# Altium integrated library National Semiconductor Amplifier.IntLib: 1665 symbols (part 17 of 44)
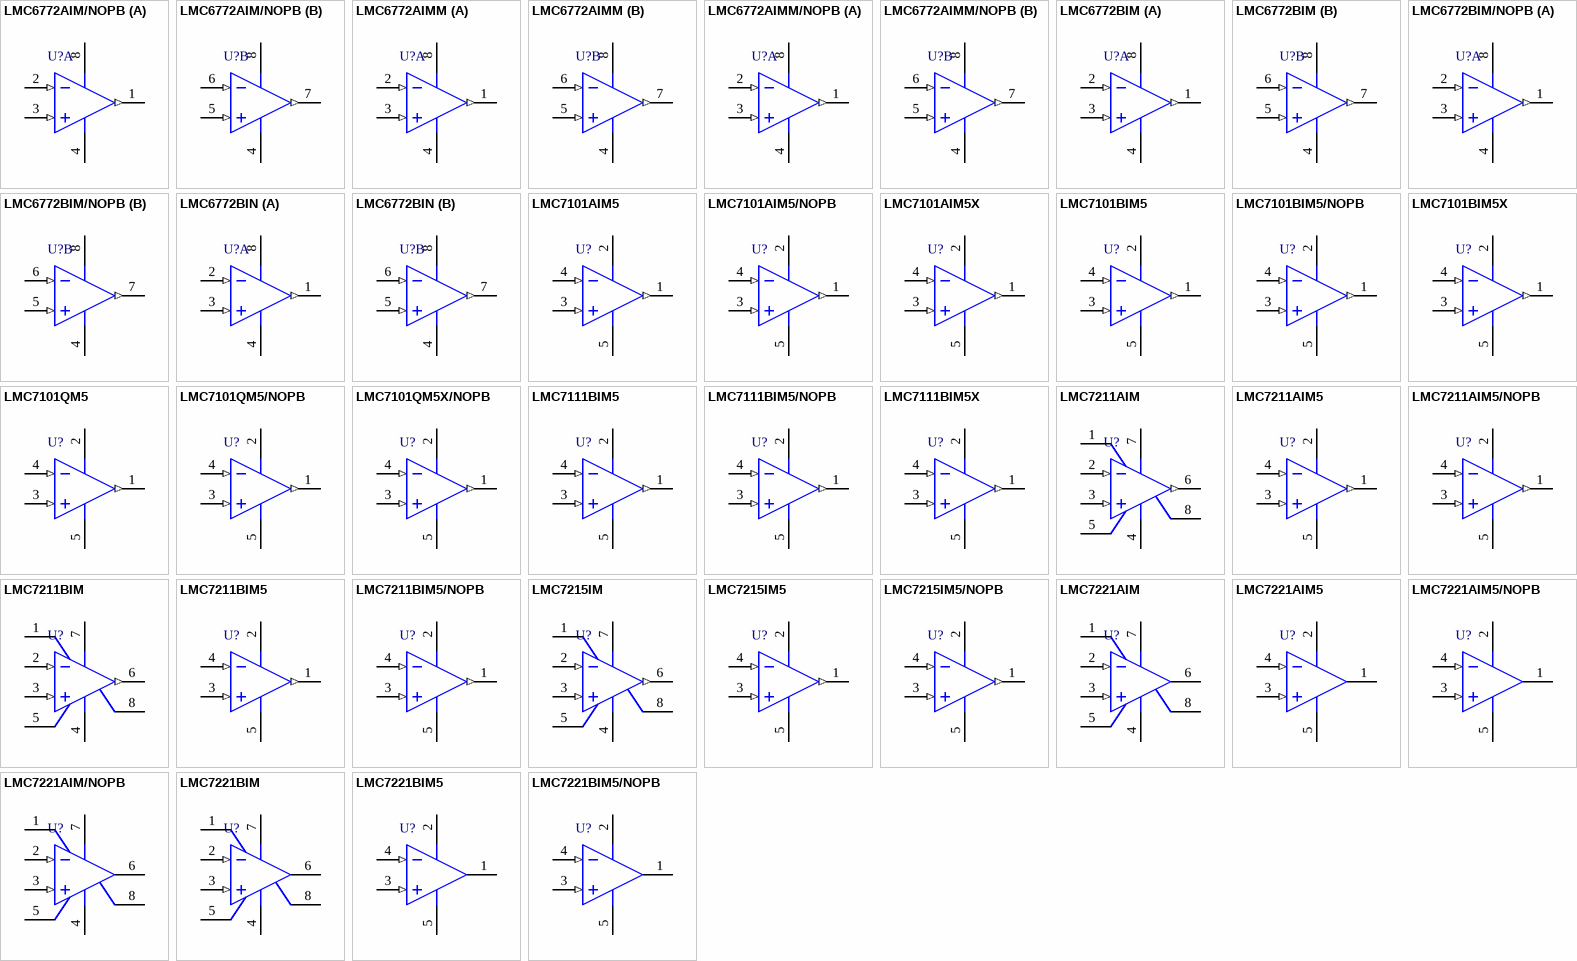
[diagram p100: symbols LMC6772AIM/NOPB to LMC7221BIM5/NOPB]

## LMC7111BIM5X
designator U?
Tiny CMOS Operational Amplifier with Rail-to-Rail Input and Output, 5-pin SOT-23; PartNumber: LMC7111BIM5X; Manufacturer: National Semiconductor; PackageTopMarking: A01B*XTT; PowerWise: N; CompType: Amplifiers; High-Reliability: Y; DatasheetVersion: Jun-2006; PackageVersion: revD, Aug-2008; PackageReference: MF05A; PackageDescription: Molded SOT-23, .115 x .063 x .040 in Body, 5 Lead, .0375 in Pitch; RoHS: N; PinCount: 5; ComponentLink1Description: Manufacturer URL; ComponentLink1URL: http://www.national.com/; ComponentLink2Description: LMC7111 Datasheet; ComponentLink2URL: http://www.national.com/ds/LM/LMC7111.pdf; ComponentLink3Description: LMC7111 Web Page; ComponentLink3URL: http://www.national.com/pf/LM/LMC7111.html; ComponentLink4Description: MF05A Package Page; ComponentLink4URL: http://www.national.com/packaging/folders/mf05a.html
footprint MF05A_N (SOT23, 5-Leads, Body 2.9x1.6mm, Pitch 0.95mm, Lead Span 2.8mm, IPC Medium Density)
footprint MF05A_L (SOT23, 5-Leads, Body 2.9x1.6mm, Pitch 0.95mm, Lead Span 2.8mm, IPC High Density)
footprint MF05A_M (SOT23, 5-Leads, Body 2.9x1.6mm, Pitch 0.95mm, Lead Span 2.8mm, IPC Low Density)
pins: 1 OUT (out), 2 V+ (power), 3 IN+ (in), 4 IN- (in), 5 V- (power)

## LMC7211AIM
designator U?
Tiny CMOS Comparator with Rail-to-Rail Input, 8-pin Narrow SOIC; PartNumber: LMC7211AIM; Manufacturer: National Semiconductor; PackageTopMarking: NSZXTT*LMC72*11AIM; PowerWise: N; CompType: Amplifiers; High-Reliability: Y; DatasheetVersion: Aug-2002; PackageVersion: revM, May-2009; PackageReference: M08A; PackageDescription: SOIC Narrow, 4.9 x 3.9 x 1.45mm, 8 Lead, 1.27mm Pitch; RoHS: N; PinCount: 8; Code_JEDEC: MS-012-AA; Code_IPC: SOIC127P600-8; ComponentLink1Description: Manufacturer URL; ComponentLink1URL: http://www.national.com/; ComponentLink2Description: LMC7211 Datasheet; ComponentLink2URL: http://www.national.com/ds/LM/LMC7211.pdf; ComponentLink3Description: LMC7211 Web Page; ComponentLink3URL: http://www.national.com/pf/LM/LMC7211.html; ComponentLink4Description: M08A Package Page; ComponentLink4URL: http://www.national.com/packaging/folders/m08a.html
footprint M08A_N (SOIC, 8-Leads, Body 4.9x3.9mm, Pitch 1.27mm, IPC Medium Density)
footprint M08A_L (SOIC, 8-Leads, Body 4.9x3.9mm, Pitch 1.27mm, IPC High Density)
footprint M08A_M (SOIC, 8-Leads, Body 4.9x3.9mm, Pitch 1.27mm, IPC Low Density)
pins: 1 NC, 2 IN- (in), 3 IN+ (in), 4 V- (power), 5 NC, 6 OUT (out), 7 V+ (power), 8 NC

## LMC7211AIM5
designator U?
Tiny CMOS Comparator with Rail-to-Rail Input, 5-pin SOT-23; PartNumber: LMC7211AIM5; Manufacturer: National Semiconductor; PackageTopMarking: C00A*XTT; PowerWise: N; CompType: Amplifiers; High-Reliability: Y; DatasheetVersion: Aug-2002; PackageVersion: revD, Aug-2008; PackageReference: MF05A; PackageDescription: Molded SOT-23, .115 x .063 x .040 in Body, 5 Lead, .0375 in Pitch; RoHS: N; PinCount: 5; ComponentLink1Description: Manufacturer URL; ComponentLink1URL: http://www.national.com/; ComponentLink2Description: LMC7211 Datasheet; ComponentLink2URL: http://www.national.com/ds/LM/LMC7211.pdf; ComponentLink3Description: LMC7211 Web Page; ComponentLink3URL: http://www.national.com/pf/LM/LMC7211.html; ComponentLink4Description: MF05A Package Page; ComponentLink4URL: http://www.national.com/packaging/folders/mf05a.html
footprint MF05A_N (SOT23, 5-Leads, Body 2.9x1.6mm, Pitch 0.95mm, Lead Span 2.8mm, IPC Medium Density)
footprint MF05A_L (SOT23, 5-Leads, Body 2.9x1.6mm, Pitch 0.95mm, Lead Span 2.8mm, IPC High Density)
footprint MF05A_M (SOT23, 5-Leads, Body 2.9x1.6mm, Pitch 0.95mm, Lead Span 2.8mm, IPC Low Density)
pins: 1 OUT (out), 2 V+ (power), 3 IN+ (in), 4 IN- (in), 5 V- (power)

## LMC7211AIM5/NOPB
designator U?
Tiny CMOS Comparator with Rail-to-Rail Input, 5-pin SOT-23, Pb-Free; PartNumber: LMC7211AIM5/NOPB; Manufacturer: National Semiconductor; PackageTopMarking: C00A*XTT; PowerWise: N; CompType: Amplifiers; High-Reliability: Y; DatasheetVersion: Aug-2002; PackageVersion: revD, Aug-2008; PackageReference: MF05A; PackageDescription: Molded SOT-23, .115 x .063 x .040 in Body, 5 Lead, .0375 in Pitch; RoHS: Y; PinCount: 5; ComponentLink1Description: Manufacturer URL; ComponentLink1URL: http://www.national.com/; ComponentLink2Description: LMC7211 Datasheet; ComponentLink2URL: http://www.national.com/ds/LM/LMC7211.pdf; ComponentLink3Description: LMC7211 Web Page; ComponentLink3URL: http://www.national.com/pf/LM/LMC7211.html; ComponentLink4Description: MF05A Package Page; ComponentLink4URL: http://www.national.com/packaging/folders/mf05a.html
footprint MF05A_N (SOT23, 5-Leads, Body 2.9x1.6mm, Pitch 0.95mm, Lead Span 2.8mm, IPC Medium Density)
footprint MF05A_L (SOT23, 5-Leads, Body 2.9x1.6mm, Pitch 0.95mm, Lead Span 2.8mm, IPC High Density)
footprint MF05A_M (SOT23, 5-Leads, Body 2.9x1.6mm, Pitch 0.95mm, Lead Span 2.8mm, IPC Low Density)
pins: 1 OUT (out), 2 V+ (power), 3 IN+ (in), 4 IN- (in), 5 V- (power)

## LMC7211BIM
designator U?
Tiny CMOS Comparator with Rail-to-Rail Input, 8-pin Narrow SOIC; PartNumber: LMC7211BIM; Manufacturer: National Semiconductor; PackageTopMarking: NSZXTT*LMC72*11BIM; PowerWise: N; CompType: Amplifiers; High-Reliability: Y; DatasheetVersion: Aug-2002; PackageVersion: revM, May-2009; PackageReference: M08A; PackageDescription: SOIC Narrow, 4.9 x 3.9 x 1.45mm, 8 Lead, 1.27mm Pitch; RoHS: N; PinCount: 8; Code_JEDEC: MS-012-AA; Code_IPC: SOIC127P600-8; ComponentLink1Description: Manufacturer URL; ComponentLink1URL: http://www.national.com/; ComponentLink2Description: LMC7211 Datasheet; ComponentLink2URL: http://www.national.com/ds/LM/LMC7211.pdf; ComponentLink3Description: LMC7211 Web Page; ComponentLink3URL: http://www.national.com/pf/LM/LMC7211.html; ComponentLink4Description: M08A Package Page; ComponentLink4URL: http://www.national.com/packaging/folders/m08a.html
footprint M08A_N (SOIC, 8-Leads, Body 4.9x3.9mm, Pitch 1.27mm, IPC Medium Density)
footprint M08A_L (SOIC, 8-Leads, Body 4.9x3.9mm, Pitch 1.27mm, IPC High Density)
footprint M08A_M (SOIC, 8-Leads, Body 4.9x3.9mm, Pitch 1.27mm, IPC Low Density)
pins: 1 NC, 2 IN- (in), 3 IN+ (in), 4 V- (power), 5 NC, 6 OUT (out), 7 V+ (power), 8 NC

## LMC7211BIM5
designator U?
Tiny CMOS Comparator with Rail-to-Rail Input, 5-pin SOT-23; PartNumber: LMC7211BIM5; Manufacturer: National Semiconductor; PackageTopMarking: C00B*XTT; PowerWise: N; CompType: Amplifiers; High-Reliability: Y; DatasheetVersion: Aug-2002; PackageVersion: revD, Aug-2008; PackageReference: MF05A; PackageDescription: Molded SOT-23, .115 x .063 x .040 in Body, 5 Lead, .0375 in Pitch; RoHS: N; PinCount: 5; ComponentLink1Description: Manufacturer URL; ComponentLink1URL: http://www.national.com/; ComponentLink2Description: LMC7211 Datasheet; ComponentLink2URL: http://www.national.com/ds/LM/LMC7211.pdf; ComponentLink3Description: LMC7211 Web Page; ComponentLink3URL: http://www.national.com/pf/LM/LMC7211.html; ComponentLink4Description: MF05A Package Page; ComponentLink4URL: http://www.national.com/packaging/folders/mf05a.html
footprint MF05A_N (SOT23, 5-Leads, Body 2.9x1.6mm, Pitch 0.95mm, Lead Span 2.8mm, IPC Medium Density)
footprint MF05A_L (SOT23, 5-Leads, Body 2.9x1.6mm, Pitch 0.95mm, Lead Span 2.8mm, IPC High Density)
footprint MF05A_M (SOT23, 5-Leads, Body 2.9x1.6mm, Pitch 0.95mm, Lead Span 2.8mm, IPC Low Density)
pins: 1 OUT (out), 2 V+ (power), 3 IN+ (in), 4 IN- (in), 5 V- (power)

## LMC7211BIM5/NOPB
designator U?
Tiny CMOS Comparator with Rail-to-Rail Input, 5-pin SOT-23, Pb-Free; PartNumber: LMC7211BIM5/NOPB; Manufacturer: National Semiconductor; PackageTopMarking: C00B*XTT; PowerWise: N; CompType: Amplifiers; High-Reliability: Y; DatasheetVersion: Aug-2002; PackageVersion: revD, Aug-2008; PackageReference: MF05A; PackageDescription: Molded SOT-23, .115 x .063 x .040 in Body, 5 Lead, .0375 in Pitch; RoHS: Y; PinCount: 5; ComponentLink1Description: Manufacturer URL; ComponentLink1URL: http://www.national.com/; ComponentLink2Description: LMC7211 Datasheet; ComponentLink2URL: http://www.national.com/ds/LM/LMC7211.pdf; ComponentLink3Description: LMC7211 Web Page; ComponentLink3URL: http://www.national.com/pf/LM/LMC7211.html; ComponentLink4Description: MF05A Package Page; ComponentLink4URL: http://www.national.com/packaging/folders/mf05a.html
footprint MF05A_N (SOT23, 5-Leads, Body 2.9x1.6mm, Pitch 0.95mm, Lead Span 2.8mm, IPC Medium Density)
footprint MF05A_L (SOT23, 5-Leads, Body 2.9x1.6mm, Pitch 0.95mm, Lead Span 2.8mm, IPC High Density)
footprint MF05A_M (SOT23, 5-Leads, Body 2.9x1.6mm, Pitch 0.95mm, Lead Span 2.8mm, IPC Low Density)
pins: 1 OUT (out), 2 V+ (power), 3 IN+ (in), 4 IN- (in), 5 V- (power)

## LMC7215IM
designator U?
Micro-Power, Rail-to-Rail CMOS Comparators with Open-Drain/Push-Pull Outputs, 8-pin Narrow SOIC; PartNumber: LMC7215IM; Manufacturer: National Semiconductor; PackageTopMarking: NSZXTT*LMC72*15IM; PowerWise: Y; CompType: Amplifiers; DatasheetVersion: Sep-2006; PackageVersion: revM, May-2009; PackageReference: M08A; PackageDescription: SOIC Narrow, 4.9 x 3.9 x 1.45mm, 8 Lead, 1.27mm Pitch; RoHS: N; PinCount: 8; High-Reliability: Y; Code_JEDEC: MS-012-AA; Code_IPC: SOIC127P600-8; ComponentLink1Description: Manufacturer URL; ComponentLink1URL: http://www.national.com/; ComponentLink2Description: LMC7215 Datasheet; ComponentLink2URL: http://www.national.com/ds/LM/LMC7215.pdf; ComponentLink3Description: LMC7215 Web Page; ComponentLink3URL: http://www.national.com/pf/LM/LMC7215.html; ComponentLink4Description: M08A Package Page; ComponentLink4URL: http://www.national.com/packaging/folders/m08a.html
footprint M08A_N (SOIC, 8-Leads, Body 4.9x3.9mm, Pitch 1.27mm, IPC Medium Density)
footprint M08A_L (SOIC, 8-Leads, Body 4.9x3.9mm, Pitch 1.27mm, IPC High Density)
footprint M08A_M (SOIC, 8-Leads, Body 4.9x3.9mm, Pitch 1.27mm, IPC Low Density)
pins: 1 NC, 2 IN- (in), 3 IN+ (in), 4 V- (power), 5 NC, 6 OUT (out), 7 V+ (power), 8 NC

## LMC7215IM5
designator U?
Micro-Power, Rail-to-Rail CMOS Comparators with Open-Drain/Push-Pull Outputs, 5-pin SOT-23; PartNumber: LMC7215IM5; Manufacturer: National Semiconductor; PackageTopMarking: C02B*XTT; PowerWise: Y; CompType: Amplifiers; DatasheetVersion: Sep-2006; PackageVersion: revD, Aug-2008; PackageReference: MF05A; PackageDescription: Molded SOT-23, .115 x .063 x .040 in Body, 5 Lead, .0375 in Pitch; RoHS: N; PinCount: 5; High-Reliability: Y; ComponentLink1Description: Manufacturer URL; ComponentLink1URL: http://www.national.com/; ComponentLink2Description: LMC7215 Datasheet; ComponentLink2URL: http://www.national.com/ds/LM/LMC7215.pdf; ComponentLink3Description: LMC7215 Web Page; ComponentLink3URL: http://www.national.com/pf/LM/LMC7215.html; ComponentLink4Description: MF05A Package Page; ComponentLink4URL: http://www.national.com/packaging/folders/mf05a.html
footprint MF05A_N (SOT23, 5-Leads, Body 2.9x1.6mm, Pitch 0.95mm, Lead Span 2.8mm, IPC Medium Density)
footprint MF05A_L (SOT23, 5-Leads, Body 2.9x1.6mm, Pitch 0.95mm, Lead Span 2.8mm, IPC High Density)
footprint MF05A_M (SOT23, 5-Leads, Body 2.9x1.6mm, Pitch 0.95mm, Lead Span 2.8mm, IPC Low Density)
pins: 1 OUT (out), 2 V+ (power), 3 IN+ (in), 4 IN- (in), 5 V- (power)

## LMC7215IM5/NOPB
designator U?
Micro-Power, Rail-to-Rail CMOS Comparators with Open-Drain/Push-Pull Outputs, 5-pin SOT-23, Pb-Free; PartNumber: LMC7215IM5/NOPB; Manufacturer: National Semiconductor; PackageTopMarking: C02B*XTT; PowerWise: Y; CompType: Amplifiers; DatasheetVersion: Sep-2006; PackageVersion: revD, Aug-2008; PackageReference: MF05A; PackageDescription: Molded SOT-23, .115 x .063 x .040 in Body, 5 Lead, .0375 in Pitch; RoHS: Y; PinCount: 5; High-Reliability: Y; ComponentLink1Description: Manufacturer URL; ComponentLink1URL: http://www.national.com/; ComponentLink2Description: LMC7215 Datasheet; ComponentLink2URL: http://www.national.com/ds/LM/LMC7215.pdf; ComponentLink3Description: LMC7215 Web Page; ComponentLink3URL: http://www.national.com/pf/LM/LMC7215.html; ComponentLink4Description: MF05A Package Page; ComponentLink4URL: http://www.national.com/packaging/folders/mf05a.html
footprint MF05A_N (SOT23, 5-Leads, Body 2.9x1.6mm, Pitch 0.95mm, Lead Span 2.8mm, IPC Medium Density)
footprint MF05A_L (SOT23, 5-Leads, Body 2.9x1.6mm, Pitch 0.95mm, Lead Span 2.8mm, IPC High Density)
footprint MF05A_M (SOT23, 5-Leads, Body 2.9x1.6mm, Pitch 0.95mm, Lead Span 2.8mm, IPC Low Density)
pins: 1 OUT (out), 2 V+ (power), 3 IN+ (in), 4 IN- (in), 5 V- (power)

## LMC7221AIM
designator U?
Tiny CMOS Comparator with Rail-to-Rail Input and Open Drain Output, 8-pin Narrow SOIC; PartNumber: LMC7221AIM; Manufacturer: National Semiconductor; PackageTopMarking: NSZXTT*LMC72*21AIM; PowerWise: N; CompType: Amplifiers; High-Reliability: Y; DatasheetVersion: Sep-2006; PackageVersion: revM, May-2009; PackageReference: M08A; PackageDescription: SOIC Narrow, 4.9 x 3.9 x 1.45mm, 8 Lead, 1.27mm Pitch; RoHS: N; PinCount: 8; Code_JEDEC: MS-012-AA; Code_IPC: SOIC127P600-8; ComponentLink1Description: Manufacturer URL; ComponentLink1URL: http://www.national.com/; ComponentLink2Description: LMC7221 Datasheet; ComponentLink2URL: http://www.national.com/ds/LM/LMC7221.pdf; ComponentLink3Description: LMC7221 Web Page; ComponentLink3URL: http://www.national.com/pf/LM/LMC7221.html; ComponentLink4Description: M08A Package Page; ComponentLink4URL: http://www.national.com/packaging/folders/m08a.html
footprint M08A_N (SOIC, 8-Leads, Body 4.9x3.9mm, Pitch 1.27mm, IPC Medium Density)
footprint M08A_L (SOIC, 8-Leads, Body 4.9x3.9mm, Pitch 1.27mm, IPC High Density)
footprint M08A_M (SOIC, 8-Leads, Body 4.9x3.9mm, Pitch 1.27mm, IPC Low Density)
pins: 1 NC, 2 IN- (in), 3 IN+ (in), 4 V- (power), 5 NC, 6 OUT (oc), 7 V+ (power), 8 NC

## LMC7221AIM5
designator U?
Tiny CMOS Comparator with Rail-to-Rail Input and Open Drain Output, 5-pin SOT-23; PartNumber: LMC7221AIM5; Manufacturer: National Semiconductor; PackageTopMarking: C01A*XTT; PowerWise: N; CompType: Amplifiers; High-Reliability: Y; DatasheetVersion: Sep-2006; PackageVersion: revD, Aug-2008; PackageReference: MF05A; PackageDescription: Molded SOT-23, .115 x .063 x .040 in Body, 5 Lead, .0375 in Pitch; RoHS: N; PinCount: 5; ComponentLink1Description: Manufacturer URL; ComponentLink1URL: http://www.national.com/; ComponentLink2Description: LMC7221 Datasheet; ComponentLink2URL: http://www.national.com/ds/LM/LMC7221.pdf; ComponentLink3Description: LMC7221 Web Page; ComponentLink3URL: http://www.national.com/pf/LM/LMC7221.html; ComponentLink4Description: MF05A Package Page; ComponentLink4URL: http://www.national.com/packaging/folders/mf05a.html
footprint MF05A_N (SOT23, 5-Leads, Body 2.9x1.6mm, Pitch 0.95mm, Lead Span 2.8mm, IPC Medium Density)
footprint MF05A_L (SOT23, 5-Leads, Body 2.9x1.6mm, Pitch 0.95mm, Lead Span 2.8mm, IPC High Density)
footprint MF05A_M (SOT23, 5-Leads, Body 2.9x1.6mm, Pitch 0.95mm, Lead Span 2.8mm, IPC Low Density)
pins: 1 OUT (oc), 2 V+ (power), 3 IN+ (in), 4 IN- (in), 5 V- (power)

## LMC7221AIM5/NOPB
designator U?
Tiny CMOS Comparator with Rail-to-Rail Input and Open Drain Output, 5-pin SOT-23, Pb-Free; PartNumber: LMC7221AIM5/NOPB; Manufacturer: National Semiconductor; PackageTopMarking: C01A*XTT; PowerWise: N; CompType: Amplifiers; High-Reliability: Y; DatasheetVersion: Sep-2006; PackageVersion: revD, Aug-2008; PackageReference: MF05A; PackageDescription: Molded SOT-23, .115 x .063 x .040 in Body, 5 Lead, .0375 in Pitch; RoHS: Y; PinCount: 5; ComponentLink1Description: Manufacturer URL; ComponentLink1URL: http://www.national.com/; ComponentLink2Description: LMC7221 Datasheet; ComponentLink2URL: http://www.national.com/ds/LM/LMC7221.pdf; ComponentLink3Description: LMC7221 Web Page; ComponentLink3URL: http://www.national.com/pf/LM/LMC7221.html; ComponentLink4Description: MF05A Package Page; ComponentLink4URL: http://www.national.com/packaging/folders/mf05a.html
footprint MF05A_N (SOT23, 5-Leads, Body 2.9x1.6mm, Pitch 0.95mm, Lead Span 2.8mm, IPC Medium Density)
footprint MF05A_L (SOT23, 5-Leads, Body 2.9x1.6mm, Pitch 0.95mm, Lead Span 2.8mm, IPC High Density)
footprint MF05A_M (SOT23, 5-Leads, Body 2.9x1.6mm, Pitch 0.95mm, Lead Span 2.8mm, IPC Low Density)
pins: 1 OUT (oc), 2 V+ (power), 3 IN+ (in), 4 IN- (in), 5 V- (power)

## LMC7221AIM/NOPB
designator U?
Tiny CMOS Comparator with Rail-to-Rail Input and Open Drain Output, 8-pin Narrow SOIC, Pb-Free; PartNumber: LMC7221AIM/NOPB; Manufacturer: National Semiconductor; PackageTopMarking: NSZXTT*LMC72*21AIM; PowerWise: N; CompType: Amplifiers; High-Reliability: Y; DatasheetVersion: Sep-2006; PackageVersion: revM, May-2009; PackageReference: M08A; PackageDescription: SOIC Narrow, 4.9 x 3.9 x 1.45mm, 8 Lead, 1.27mm Pitch; RoHS: Y; PinCount: 8; Code_JEDEC: MS-012-AA; Code_IPC: SOIC127P600-8; ComponentLink1Description: Manufacturer URL; ComponentLink1URL: http://www.national.com/; ComponentLink2Description: LMC7221 Datasheet; ComponentLink2URL: http://www.national.com/ds/LM/LMC7221.pdf; ComponentLink3Description: LMC7221 Web Page; ComponentLink3URL: http://www.national.com/pf/LM/LMC7221.html; ComponentLink4Description: M08A Package Page; ComponentLink4URL: http://www.national.com/packaging/folders/m08a.html
footprint M08A_N (SOIC, 8-Leads, Body 4.9x3.9mm, Pitch 1.27mm, IPC Medium Density)
footprint M08A_L (SOIC, 8-Leads, Body 4.9x3.9mm, Pitch 1.27mm, IPC High Density)
footprint M08A_M (SOIC, 8-Leads, Body 4.9x3.9mm, Pitch 1.27mm, IPC Low Density)
pins: 1 NC, 2 IN- (in), 3 IN+ (in), 4 V- (power), 5 NC, 6 OUT (oc), 7 V+ (power), 8 NC

## LMC7221BIM
designator U?
Tiny CMOS Comparator with Rail-to-Rail Input and Open Drain Output, 8-pin Narrow SOIC; PartNumber: LMC7221BIM; Manufacturer: National Semiconductor; PackageTopMarking: NSZXTT*LMC72*21BIM; PowerWise: N; CompType: Amplifiers; High-Reliability: Y; DatasheetVersion: Sep-2006; PackageVersion: revM, May-2009; PackageReference: M08A; PackageDescription: SOIC Narrow, 4.9 x 3.9 x 1.45mm, 8 Lead, 1.27mm Pitch; RoHS: N; PinCount: 8; Code_JEDEC: MS-012-AA; Code_IPC: SOIC127P600-8; ComponentLink1Description: Manufacturer URL; ComponentLink1URL: http://www.national.com/; ComponentLink2Description: LMC7221 Datasheet; ComponentLink2URL: http://www.national.com/ds/LM/LMC7221.pdf; ComponentLink3Description: LMC7221 Web Page; ComponentLink3URL: http://www.national.com/pf/LM/LMC7221.html; ComponentLink4Description: M08A Package Page; ComponentLink4URL: http://www.national.com/packaging/folders/m08a.html
footprint M08A_N (SOIC, 8-Leads, Body 4.9x3.9mm, Pitch 1.27mm, IPC Medium Density)
footprint M08A_L (SOIC, 8-Leads, Body 4.9x3.9mm, Pitch 1.27mm, IPC High Density)
footprint M08A_M (SOIC, 8-Leads, Body 4.9x3.9mm, Pitch 1.27mm, IPC Low Density)
pins: 1 NC, 2 IN- (in), 3 IN+ (in), 4 V- (power), 5 NC, 6 OUT (oc), 7 V+ (power), 8 NC

## LMC7221BIM5
designator U?
Tiny CMOS Comparator with Rail-to-Rail Input and Open Drain Output, 5-pin SOT-23; PartNumber: LMC7221BIM5; Manufacturer: National Semiconductor; PackageTopMarking: C01B*XTT; PowerWise: N; CompType: Amplifiers; High-Reliability: Y; DatasheetVersion: Sep-2006; PackageVersion: revD, Aug-2008; PackageReference: MF05A; PackageDescription: Molded SOT-23, .115 x .063 x .040 in Body, 5 Lead, .0375 in Pitch; RoHS: N; PinCount: 5; ComponentLink1Description: Manufacturer URL; ComponentLink1URL: http://www.national.com/; ComponentLink2Description: LMC7221 Datasheet; ComponentLink2URL: http://www.national.com/ds/LM/LMC7221.pdf; ComponentLink3Description: LMC7221 Web Page; ComponentLink3URL: http://www.national.com/pf/LM/LMC7221.html; ComponentLink4Description: MF05A Package Page; ComponentLink4URL: http://www.national.com/packaging/folders/mf05a.html
footprint MF05A_N (SOT23, 5-Leads, Body 2.9x1.6mm, Pitch 0.95mm, Lead Span 2.8mm, IPC Medium Density)
footprint MF05A_L (SOT23, 5-Leads, Body 2.9x1.6mm, Pitch 0.95mm, Lead Span 2.8mm, IPC High Density)
footprint MF05A_M (SOT23, 5-Leads, Body 2.9x1.6mm, Pitch 0.95mm, Lead Span 2.8mm, IPC Low Density)
pins: 1 OUT (oc), 2 V+ (power), 3 IN+ (in), 4 IN- (in), 5 V- (power)

## LMC7221BIM5/NOPB
designator U?
Tiny CMOS Comparator with Rail-to-Rail Input and Open Drain Output, 5-pin SOT-23, Pb-Free; PartNumber: LMC7221BIM5/NOPB; Manufacturer: National Semiconductor; PackageTopMarking: C01B*XTT; PowerWise: N; CompType: Amplifiers; High-Reliability: Y; DatasheetVersion: Sep-2006; PackageVersion: revD, Aug-2008; PackageReference: MF05A; PackageDescription: Molded SOT-23, .115 x .063 x .040 in Body, 5 Lead, .0375 in Pitch; RoHS: Y; PinCount: 5; ComponentLink1Description: Manufacturer URL; ComponentLink1URL: http://www.national.com/; ComponentLink2Description: LMC7221 Datasheet; ComponentLink2URL: http://www.national.com/ds/LM/LMC7221.pdf; ComponentLink3Description: LMC7221 Web Page; ComponentLink3URL: http://www.national.com/pf/LM/LMC7221.html; ComponentLink4Description: MF05A Package Page; ComponentLink4URL: http://www.national.com/packaging/folders/mf05a.html
footprint MF05A_N (SOT23, 5-Leads, Body 2.9x1.6mm, Pitch 0.95mm, Lead Span 2.8mm, IPC Medium Density)
footprint MF05A_L (SOT23, 5-Leads, Body 2.9x1.6mm, Pitch 0.95mm, Lead Span 2.8mm, IPC High Density)
footprint MF05A_M (SOT23, 5-Leads, Body 2.9x1.6mm, Pitch 0.95mm, Lead Span 2.8mm, IPC Low Density)
pins: 1 OUT (oc), 2 V+ (power), 3 IN+ (in), 4 IN- (in), 5 V- (power)

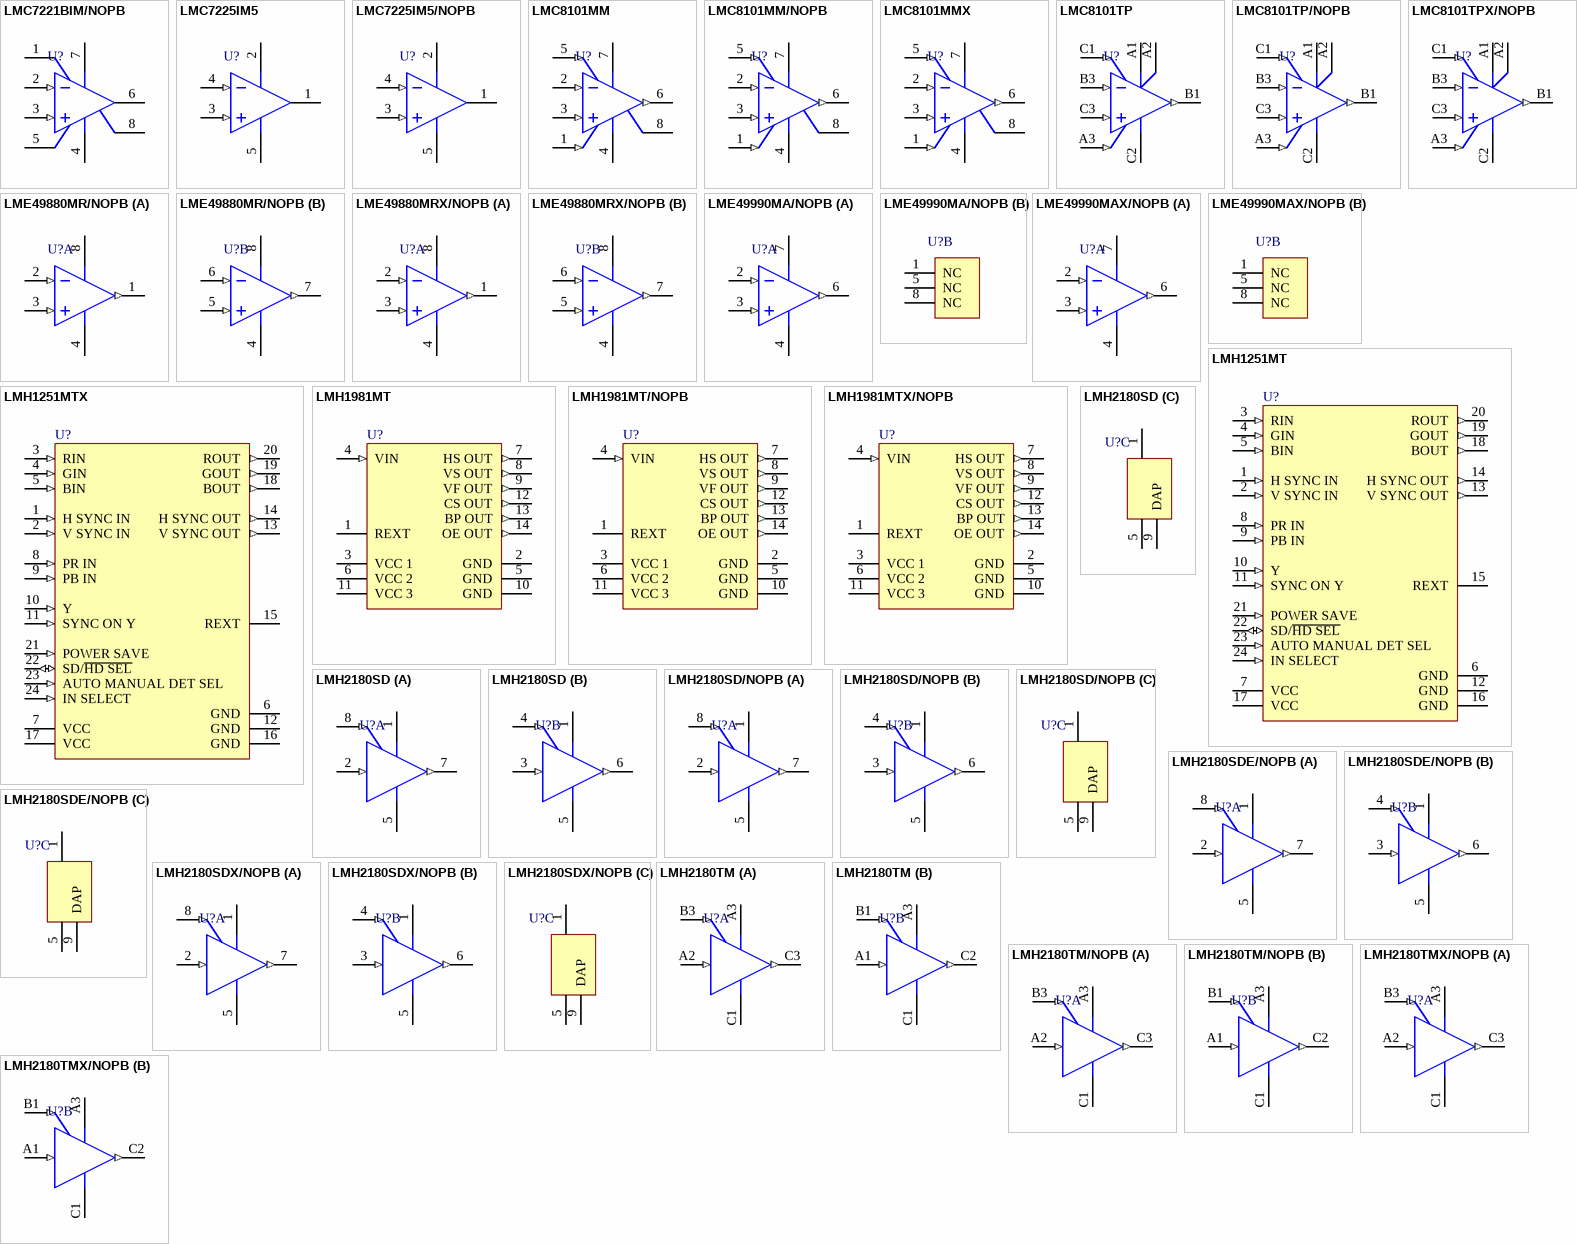
[diagram p38: symbols LMC7221BIM/NOPB to LMH2180TMX/NOPB]

## LMC7221BIM/NOPB
designator U?
Tiny CMOS Comparator with Rail-to-Rail Input and Open Drain Output, 8-pin Narrow SOIC, Pb-Free; PartNumber: LMC7221BIM/NOPB; Manufacturer: National Semiconductor; PackageTopMarking: NSZXTT*LMC72*21BIM; PowerWise: N; CompType: Amplifiers; High-Reliability: Y; DatasheetVersion: Sep-2006; PackageVersion: revM, May-2009; PackageReference: M08A; PackageDescription: SOIC Narrow, 4.9 x 3.9 x 1.45mm, 8 Lead, 1.27mm Pitch; RoHS: Y; PinCount: 8; Code_JEDEC: MS-012-AA; Code_IPC: SOIC127P600-8; ComponentLink1Description: Manufacturer URL; ComponentLink1URL: http://www.national.com/; ComponentLink2Description: LMC7221 Datasheet; ComponentLink2URL: http://www.national.com/ds/LM/LMC7221.pdf; ComponentLink3Description: LMC7221 Web Page; ComponentLink3URL: http://www.national.com/pf/LM/LMC7221.html; ComponentLink4Description: M08A Package Page; ComponentLink4URL: http://www.national.com/packaging/folders/m08a.html
footprint M08A_N (SOIC, 8-Leads, Body 4.9x3.9mm, Pitch 1.27mm, IPC Medium Density)
footprint M08A_L (SOIC, 8-Leads, Body 4.9x3.9mm, Pitch 1.27mm, IPC High Density)
footprint M08A_M (SOIC, 8-Leads, Body 4.9x3.9mm, Pitch 1.27mm, IPC Low Density)
pins: 1 NC, 2 IN- (in), 3 IN+ (in), 4 V- (power), 5 NC, 6 OUT (oc), 7 V+ (power), 8 NC

## LMC7225IM5
designator U?
Micro-Power, Rail-to-Rail CMOS Comparators with Open-Drain/Push-Pull Outputs, 5-pin SOT-23; PartNumber: LMC7225IM5; Manufacturer: National Semiconductor; PackageTopMarking: C03B*XTT; PowerWise: Y; CompType: Amplifiers; DatasheetVersion: Sep-2006; PackageVersion: revD, Aug-2008; PackageReference: MF05A; PackageDescription: Molded SOT-23, .115 x .063 x .040 in Body, 5 Lead, .0375 in Pitch; RoHS: N; PinCount: 5; High-Reliability: Y; ComponentLink1Description: Manufacturer URL; ComponentLink1URL: http://www.national.com/; ComponentLink2Description: LMC7225 Datasheet; ComponentLink2URL: http://www.national.com/ds/LM/LMC7225.pdf; ComponentLink3Description: LMC7225 Web Page; ComponentLink3URL: http://www.national.com/pf/LM/LMC7225.html; ComponentLink4Description: MF05A Package Page; ComponentLink4URL: http://www.national.com/packaging/folders/mf05a.html
footprint MF05A_N (SOT23, 5-Leads, Body 2.9x1.6mm, Pitch 0.95mm, Lead Span 2.8mm, IPC Medium Density)
footprint MF05A_L (SOT23, 5-Leads, Body 2.9x1.6mm, Pitch 0.95mm, Lead Span 2.8mm, IPC High Density)
footprint MF05A_M (SOT23, 5-Leads, Body 2.9x1.6mm, Pitch 0.95mm, Lead Span 2.8mm, IPC Low Density)
pins: 1 OUT (oc), 2 V+ (power), 3 IN+ (in), 4 IN- (in), 5 V- (power)

## LMC7225IM5/NOPB
designator U?
Micro-Power, Rail-to-Rail CMOS Comparators with Open-Drain/Push-Pull Outputs, 5-pin SOT-23, Pb-Free; PartNumber: LMC7225IM5/NOPB; Manufacturer: National Semiconductor; PackageTopMarking: C03B*XTT; PowerWise: Y; CompType: Amplifiers; DatasheetVersion: Sep-2006; PackageVersion: revD, Aug-2008; PackageReference: MF05A; PackageDescription: Molded SOT-23, .115 x .063 x .040 in Body, 5 Lead, .0375 in Pitch; RoHS: Y; PinCount: 5; High-Reliability: Y; ComponentLink1Description: Manufacturer URL; ComponentLink1URL: http://www.national.com/; ComponentLink2Description: LMC7225 Datasheet; ComponentLink2URL: http://www.national.com/ds/LM/LMC7225.pdf; ComponentLink3Description: LMC7225 Web Page; ComponentLink3URL: http://www.national.com/pf/LM/LMC7225.html; ComponentLink4Description: MF05A Package Page; ComponentLink4URL: http://www.national.com/packaging/folders/mf05a.html
footprint MF05A_N (SOT23, 5-Leads, Body 2.9x1.6mm, Pitch 0.95mm, Lead Span 2.8mm, IPC Medium Density)
footprint MF05A_L (SOT23, 5-Leads, Body 2.9x1.6mm, Pitch 0.95mm, Lead Span 2.8mm, IPC High Density)
footprint MF05A_M (SOT23, 5-Leads, Body 2.9x1.6mm, Pitch 0.95mm, Lead Span 2.8mm, IPC Low Density)
pins: 1 OUT (oc), 2 V+ (power), 3 IN+ (in), 4 IN- (in), 5 V- (power)

## LMC8101MM
designator U?
Rail-to-Rail Input and Output, 2.7V Op Amp with Shutdown, 8-pin Mini SOIC; PartNumber: LMC8101MM; Manufacturer: National Semiconductor; PackageTopMarking: ZXTT*A11; PowerWise: N; CompType: Amplifiers; High-Reliability: Y; DatasheetVersion: May-2004; PackageVersion: revF, Apr-2008; PackageReference: MUA08A; PackageDescription: MINI SOIC, .118 x .118 x .034in, 8 Lead, .0256in Pitch; RoHS: N; PinCount: 8; Code_JEDEC: MO-187-AA; ComponentLink1Description: Manufacturer URL; ComponentLink1URL: http://www.national.com/; ComponentLink2Description: LMC8101 Datasheet; ComponentLink2URL: http://www.national.com/ds/LM/LMC8101.pdf; ComponentLink3Description: LMC8101 Web Page; ComponentLink3URL: http://www.national.com/pf/LM/LMC8101.html; ComponentLink4Description: MUA08A Package Page; ComponentLink4URL: http://www.national.com/packaging/folders/mua08a.html
footprint MUA08A_N (TSOP, 8-Leads, Body 3x3mm, Pitch 0.65mm, IPC Medium Density)
footprint MUA08A_L (TSOP, 8-Leads, Body 3x3mm, Pitch 0.65mm, IPC High Density)
footprint MUA08A_M (TSOP, 8-Leads, Body 3x3mm, Pitch 0.65mm, IPC Low Density)
pins: 1 SL (in), 2 IN- (in), 3 IN+ (in), 4 V- (power), 5 SD (in), 6 OUT (out), 7 V+ (power), 8 NC

## LMC8101MM/NOPB
designator U?
Rail-to-Rail Input and Output, 2.7V Op Amp with Shutdown, 8-pin Mini SOIC, Pb-Free; PartNumber: LMC8101MM/NOPB; Manufacturer: National Semiconductor; PackageTopMarking: ZXTT*A11; PowerWise: N; CompType: Amplifiers; High-Reliability: Y; DatasheetVersion: May-2004; PackageVersion: revF, Apr-2008; PackageReference: MUA08A; PackageDescription: MINI SOIC, .118 x .118 x .034in, 8 Lead, .0256in Pitch; RoHS: Y; PinCount: 8; Code_JEDEC: MO-187-AA; ComponentLink1Description: Manufacturer URL; ComponentLink1URL: http://www.national.com/; ComponentLink2Description: LMC8101 Datasheet; ComponentLink2URL: http://www.national.com/ds/LM/LMC8101.pdf; ComponentLink3Description: LMC8101 Web Page; ComponentLink3URL: http://www.national.com/pf/LM/LMC8101.html; ComponentLink4Description: MUA08A Package Page; ComponentLink4URL: http://www.national.com/packaging/folders/mua08a.html
footprint MUA08A_N (TSOP, 8-Leads, Body 3x3mm, Pitch 0.65mm, IPC Medium Density)
footprint MUA08A_L (TSOP, 8-Leads, Body 3x3mm, Pitch 0.65mm, IPC High Density)
footprint MUA08A_M (TSOP, 8-Leads, Body 3x3mm, Pitch 0.65mm, IPC Low Density)
pins: 1 SL (in), 2 IN- (in), 3 IN+ (in), 4 V- (power), 5 SD (in), 6 OUT (out), 7 V+ (power), 8 NC

## LMC8101MMX
designator U?
Rail-to-Rail Input and Output, 2.7V Op Amp with Shutdown, 8-pin Mini SOIC; PartNumber: LMC8101MMX; Manufacturer: National Semiconductor; PackageTopMarking: ZXTT*A11; PowerWise: N; CompType: Amplifiers; High-Reliability: Y; DatasheetVersion: May-2004; PackageVersion: revF, Apr-2008; PackageReference: MUA08A; PackageDescription: MINI SOIC, .118 x .118 x .034in, 8 Lead, .0256in Pitch; RoHS: N; PinCount: 8; Code_JEDEC: MO-187-AA; ComponentLink1Description: Manufacturer URL; ComponentLink1URL: http://www.national.com/; ComponentLink2Description: LMC8101 Datasheet; ComponentLink2URL: http://www.national.com/ds/LM/LMC8101.pdf; ComponentLink3Description: LMC8101 Web Page; ComponentLink3URL: http://www.national.com/pf/LM/LMC8101.html; ComponentLink4Description: MUA08A Package Page; ComponentLink4URL: http://www.national.com/packaging/folders/mua08a.html
footprint MUA08A_N (TSOP, 8-Leads, Body 3x3mm, Pitch 0.65mm, IPC Medium Density)
footprint MUA08A_L (TSOP, 8-Leads, Body 3x3mm, Pitch 0.65mm, IPC High Density)
footprint MUA08A_M (TSOP, 8-Leads, Body 3x3mm, Pitch 0.65mm, IPC Low Density)
pins: 1 SL (in), 2 IN- (in), 3 IN+ (in), 4 V- (power), 5 SD (in), 6 OUT (out), 7 V+ (power), 8 NC

## LMC8101TP
designator U?
Rail-to-Rail Input and Output, 2.7V Op Amp with Shutdown, 8-pin Micro SMD; PartNumber: LMC8101TP; Manufacturer: National Semiconductor; PackageTopMarking: XVA*I 08; PowerWise: N; CompType: Amplifiers; High-Reliability: Y; DatasheetVersion: May-2004; PackageVersion: revA, Mar-2002; PackageReference: TPA08FFA; PackageDescription: Thin Micro SMD, 8 Bump, 0.5mm Pitch; RoHS: Y; PinCount: 8; Code_JEDEC: MO-211-BC; ComponentLink1Description: Manufacturer URL; ComponentLink1URL: http://www.national.com/; ComponentLink2Description: LMC8101 Datasheet; ComponentLink2URL: http://www.national.com/ds/LM/LMC8101.pdf; ComponentLink3Description: LMC8101 Web Page; ComponentLink3URL: http://www.national.com/pf/LM/LMC8101.html; ComponentLink4Description: TPA08FFA Package Page; ComponentLink4URL: http://www.national.com/packaging/folders/tpa08ffa.html
footprint TPA08FFA (Micro SMD, 8-Leads, Body 1.41x1.41mm, Pitch 0.5mm, NSC Recommended)
pins: A1 V+ (power), A2 V+ (power), A3 SL (in), B1 OUT (out), B3 IN- (in), C1 SD (in), C2 V- (power), C3 IN+ (in)

## LMC8101TP/NOPB
designator U?
Rail-to-Rail Input and Output, 2.7V Op Amp with Shutdown, 8-pin Micro SMD, Pb-Free; PartNumber: LMC8101TP/NOPB; Manufacturer: National Semiconductor; PackageTopMarking: XVA*I 08; PowerWise: N; CompType: Amplifiers; High-Reliability: Y; DatasheetVersion: May-2004; PackageVersion: revA, Mar-2002; PackageReference: TPA08FFA; PackageDescription: Thin Micro SMD, 8 Bump, 0.5mm Pitch; RoHS: Y; PinCount: 8; Code_JEDEC: MO-211-BC; ComponentLink1Description: Manufacturer URL; ComponentLink1URL: http://www.national.com/; ComponentLink2Description: LMC8101 Datasheet; ComponentLink2URL: http://www.national.com/ds/LM/LMC8101.pdf; ComponentLink3Description: LMC8101 Web Page; ComponentLink3URL: http://www.national.com/pf/LM/LMC8101.html; ComponentLink4Description: TPA08FFA Package Page; ComponentLink4URL: http://www.national.com/packaging/folders/tpa08ffa.html
footprint TPA08FFA (Micro SMD, 8-Leads, Body 1.41x1.41mm, Pitch 0.5mm, NSC Recommended)
pins: A1 V+ (power), A2 V+ (power), A3 SL (in), B1 OUT (out), B3 IN- (in), C1 SD (in), C2 V- (power), C3 IN+ (in)

## LMC8101TPX/NOPB
designator U?
Rail-to-Rail Input and Output, 2.7V Op Amp with Shutdown, 8-pin Micro SMD, Pb-Free; PartNumber: LMC8101TPX/NOPB; Manufacturer: National Semiconductor; PackageTopMarking: XVA*I 08; PowerWise: N; CompType: Amplifiers; High-Reliability: Y; DatasheetVersion: May-2004; PackageVersion: revA, Mar-2002; PackageReference: TPA08FFA; PackageDescription: Thin Micro SMD, 8 Bump, 0.5mm Pitch; RoHS: Y; PinCount: 8; Code_JEDEC: MO-211-BC; ComponentLink1Description: Manufacturer URL; ComponentLink1URL: http://www.national.com/; ComponentLink2Description: LMC8101 Datasheet; ComponentLink2URL: http://www.national.com/ds/LM/LMC8101.pdf; ComponentLink3Description: LMC8101 Web Page; ComponentLink3URL: http://www.national.com/pf/LM/LMC8101.html; ComponentLink4Description: TPA08FFA Package Page; ComponentLink4URL: http://www.national.com/packaging/folders/tpa08ffa.html
footprint TPA08FFA (Micro SMD, 8-Leads, Body 1.41x1.41mm, Pitch 0.5mm, NSC Recommended)
pins: A1 V+ (power), A2 V+ (power), A3 SL (in), B1 OUT (out), B3 IN- (in), C1 SD (in), C2 V- (power), C3 IN+ (in)

## LME49880MR/NOPB
designator U?
Dual JFET Input Audio Operational Amplifier, 8 pin PSOP, Pb-Free; PartNumber: LME49880MR/NOPB; Manufacturer: National Semiconductor; PackageTopMarking: NSXYTT*L49880*MR; PowerWise: N; CompType: Amplifiers; High-Reliability: Y; DatasheetVersion: Jan-2010; PackageVersion: revB, Dec-2007; PackageReference: MRA08B; PackageDescription: Molded, PSOP .193 x .154 x .058in, 8 Lead, .050in Pitch, Large DAP; RoHS: Y; PinCount: 8; Code_JEDEC: MS-012-AA; ComponentLink1Description: Manufacturer URL; ComponentLink1URL: http://www.national.com/; ComponentLink2Description: LME49880 Datasheet; ComponentLink2URL: http://www.national.com/ds/LM/LME49880.pdf; ComponentLink3Description: LME49880 Web Page; ComponentLink3URL: http://www.national.com/pf/LM/LME49880.html; ComponentLink4Description: MRA08B Package Page; ComponentLink4URL: http://www.national.com/packaging/folders/mra08b.html
footprint MRA08B_N (SOIC, 8-Leads, Body 4.9x3.9mm, Pitch 1.27mm, Thermal Pad, IPC Medium Density)
footprint MRA08B_L (SOIC, 8-Leads, Body 4.9x3.9mm, Pitch 1.27mm, Thermal Pad, IPC High Density)
footprint MRA08B_M (SOIC, 8-Leads, Body 4.9x3.9mm, Pitch 1.27mm, Thermal Pad, IPC Low Density)
pins on every part: 4 V- (power), 8 V+ (power)
part A pins: 1 OUTA (out), 2 INA- (in), 3 INA+ (in)
part B pins: 5 INB+ (in), 6 INB- (in), 7 OUTB (out)

## LME49880MRX/NOPB
designator U?
Dual JFET Input Audio Operational Amplifier, 8 pin PSOP, Pb-Free; PartNumber: LME49880MRX/NOPB; Manufacturer: National Semiconductor; PackageTopMarking: NSXYTT*L49880*MR; PowerWise: N; CompType: Amplifiers; High-Reliability: Y; DatasheetVersion: Jan-2010; PackageVersion: revB, Dec-2007; PackageReference: MRA08B; PackageDescription: Molded, PSOP .193 x .154 x .058in, 8 Lead, .050in Pitch, Large DAP; RoHS: Y; PinCount: 8; Code_JEDEC: MS-012-AA; ComponentLink1Description: Manufacturer URL; ComponentLink1URL: http://www.national.com/; ComponentLink2Description: LME49880 Datasheet; ComponentLink2URL: http://www.national.com/ds/LM/LME49880.pdf; ComponentLink3Description: LME49880 Web Page; ComponentLink3URL: http://www.national.com/pf/LM/LME49880.html; ComponentLink4Description: MRA08B Package Page; ComponentLink4URL: http://www.national.com/packaging/folders/mra08b.html
footprint MRA08B_N (SOIC, 8-Leads, Body 4.9x3.9mm, Pitch 1.27mm, Thermal Pad, IPC Medium Density)
footprint MRA08B_L (SOIC, 8-Leads, Body 4.9x3.9mm, Pitch 1.27mm, Thermal Pad, IPC High Density)
footprint MRA08B_M (SOIC, 8-Leads, Body 4.9x3.9mm, Pitch 1.27mm, Thermal Pad, IPC Low Density)
pins on every part: 4 V- (power), 8 V+ (power)
part A pins: 1 OUTA (out), 2 INA- (in), 3 INA+ (in)
part B pins: 5 INB+ (in), 6 INB- (in), 7 OUTB (out)

## LME49990MA/NOPB
designator U?
Ultra-low Distortion, Ultra-low Noise Operational Amplifier, 8 pin Narrow SOIC, Pb-Free; PartNumber: LME49990MA/NOPB; Manufacturer: National Semiconductor; PackageTopMarking: NSZXTT*L49990*MA; PowerWise: N; CompType: Amplifiers; High-Reliability: Y; DatasheetVersion: Jan-2010; PackageVersion: revM, May-2009; PackageReference: M08A; PackageDescription: SOIC Narrow, 4.9 x 3.9 x 1.45mm, 8 Lead, 1.27mm Pitch; RoHS: Y; PinCount: 8; Code_JEDEC: MS-012-AA; Code_IPC: SOIC127P600-8; ComponentLink1Description: Manufacturer URL; ComponentLink1URL: http://www.national.com/; ComponentLink2Description: LME49990 Datasheet; ComponentLink2URL: http://www.national.com/ds/LM/LME49990.pdf; ComponentLink3Description: LME49990 Web Page; ComponentLink3URL: http://www.national.com/pf/LM/LME49990.html; ComponentLink4Description: M08A Package Page; ComponentLink4URL: http://www.national.com/packaging/folders/m08a.html
footprint M08A_N (SOIC, 8-Leads, Body 4.9x3.9mm, Pitch 1.27mm, IPC Medium Density)
footprint M08A_L (SOIC, 8-Leads, Body 4.9x3.9mm, Pitch 1.27mm, IPC High Density)
footprint M08A_M (SOIC, 8-Leads, Body 4.9x3.9mm, Pitch 1.27mm, IPC Low Density)
part A pins: 2 IN- (in), 3 IN+ (in), 4 V- (power), 6 OUT (out), 7 V+ (power)
part B pins: 1 NC, 5 NC, 8 NC

## LME49990MAX/NOPB
designator U?
Ultra-low Distortion, Ultra-low Noise Operational Amplifier, 8 pin Narrow SOIC, Pb-Free; PartNumber: LME49990MAX/NOPB; Manufacturer: National Semiconductor; PackageTopMarking: NSZXTT*L49990*MA; PowerWise: N; CompType: Amplifiers; High-Reliability: Y; DatasheetVersion: Jan-2010; PackageVersion: revM, May-2009; PackageReference: M08A; PackageDescription: SOIC Narrow, 4.9 x 3.9 x 1.45mm, 8 Lead, 1.27mm Pitch; RoHS: Y; PinCount: 8; Code_JEDEC: MS-012-AA; Code_IPC: SOIC127P600-8; ComponentLink1Description: Manufacturer URL; ComponentLink1URL: http://www.national.com/; ComponentLink2Description: LME49990 Datasheet; ComponentLink2URL: http://www.national.com/ds/LM/LME49990.pdf; ComponentLink3Description: LME49990 Web Page; ComponentLink3URL: http://www.national.com/pf/LM/LME49990.html; ComponentLink4Description: M08A Package Page; ComponentLink4URL: http://www.national.com/packaging/folders/m08a.html
footprint M08A_N (SOIC, 8-Leads, Body 4.9x3.9mm, Pitch 1.27mm, IPC Medium Density)
footprint M08A_L (SOIC, 8-Leads, Body 4.9x3.9mm, Pitch 1.27mm, IPC High Density)
footprint M08A_M (SOIC, 8-Leads, Body 4.9x3.9mm, Pitch 1.27mm, IPC Low Density)
part A pins: 2 IN- (in), 3 IN+ (in), 4 V- (power), 6 OUT (out), 7 V+ (power)
part B pins: 1 NC, 5 NC, 8 NC

## LMH1251MT
designator U?
YPBPR to RGBHV Converter and 2:1 Video Switch, 24-pin TSSOP; PartNumber: LMH1251MT; Manufacturer: National Semiconductor; PackageTopMarking: NSUZXYTTE#*LMH1251*MT; PowerWise: N; CompType: Amplifiers; High-Reliability: Y; DatasheetVersion: Jul-2008; PackageVersion: revE, Mar-2003; PackageReference: MTC24; PackageDescription: Molded TSSOP, Jedec, 7.8 x 4.4 x 0.9mm Body, 24 Lead, 0.65mm Pitch; RoHS: N; PinCount: 24; Code_JEDEC: MO-153-AD; ComponentLink1Description: Manufacturer URL; ComponentLink1URL: http://www.national.com/; ComponentLink2Description: LMH1251 Datasheet; ComponentLink2URL: http://www.national.com/ds/LM/LMH1251.pdf; ComponentLink3Description: LMH1251 Web Page; ComponentLink3URL: http://www.national.com/pf/LM/LMH1251.html; ComponentLink4Description: MTC24 Package Page; ComponentLink4URL: http://www.national.com/packaging/folders/mtc24.html
footprint MTC24_N (TSOP, 24-Leads, Body 7.8x4.4mm, Pitch 0.65mm, IPC Medium Density)
footprint MTC24_L (TSOP, 24-Leads, Body 7.8x4.4mm, Pitch 0.65mm, IPC High Density)
footprint MTC24_M (TSOP, 24-Leads, Body 7.8x4.4mm, Pitch 0.65mm, IPC Low Density)
pins: 1 H SYNC IN (in), 2 V SYNC IN (in), 3 RIN (in), 4 GIN (in), 5 BIN (in), 6 GND (power), 7 VCC (power), 8 PR IN (in), 9 PB IN (in), 10 Y (in), 11 SYNC ON Y (in), 12 GND (power), 13 V SYNC OUT (out), 14 H SYNC OUT (out), 15 REXT, 16 GND (power), 17 VCC (power), 18 BOUT (out), 19 GOUT (out), 20 ROUT (out), 21 POWER SAVE (in), 22 SD/~{HD SEL} (io), 23 AUTO MANUAL DET SEL (in), 24 IN SELECT (in)

## LMH1251MTX
designator U?
YPbPr to RGBHV Converter and 2:1 Video Switch, 24-pin TSSOP; PartNumber: LMH1251MTX; Manufacturer: National Semiconductor; PackageTopMarking: NSUZXYTTE#*LMH1251*MT; PowerWise: N; CompType: Amplifiers; High-Reliability: Y; DatasheetVersion: Jul-2008; PackageVersion: revE, Mar-2003; PackageReference: MTC24; PackageDescription: Molded TSSOP, Jedec, 7.8 x 4.4 x 0.9mm Body, 24 Lead, 0.65mm Pitch; RoHS: N; PinCount: 24; Code_JEDEC: MO-153-AD; ComponentLink1Description: Manufacturer URL; ComponentLink1URL: http://www.national.com/; ComponentLink2Description: LMH1251 Datasheet; ComponentLink2URL: http://www.national.com/ds/LM/LMH1251.pdf; ComponentLink3Description: LMH1251 Web Page; ComponentLink3URL: http://www.national.com/pf/LM/LMH1251.html; ComponentLink4Description: MTC24 Package Page; ComponentLink4URL: http://www.national.com/packaging/folders/mtc24.html
footprint MTC24_N (TSOP, 24-Leads, Body 7.8x4.4mm, Pitch 0.65mm, IPC Medium Density)
footprint MTC24_L (TSOP, 24-Leads, Body 7.8x4.4mm, Pitch 0.65mm, IPC High Density)
footprint MTC24_M (TSOP, 24-Leads, Body 7.8x4.4mm, Pitch 0.65mm, IPC Low Density)
pins: 1 H SYNC IN (in), 2 V SYNC IN (in), 3 RIN (in), 4 GIN (in), 5 BIN (in), 6 GND (power), 7 VCC (power), 8 PR IN (in), 9 PB IN (in), 10 Y (in), 11 SYNC ON Y (in), 12 GND (power), 13 V SYNC OUT (out), 14 H SYNC OUT (out), 15 REXT, 16 GND (power), 17 VCC (power), 18 BOUT (out), 19 GOUT (out), 20 ROUT (out), 21 POWER SAVE (in), 22 SD/~{HD SEL} (io), 23 AUTO MANUAL DET SEL (in), 24 IN SELECT (in)

## LMH1981MT
designator U?
Multi-Format Video Sync Separator, 14-pin TSSOP; PartNumber: LMH1981MT; Manufacturer: National Semiconductor; PackageTopMarking: NSUZXYTT*LMH19*81MT; PowerWise: N; CompType: Amplifiers; High-Reliability: Y; DatasheetVersion: Jul-2007; PackageVersion: revD, Jun-2003; PackageReference: MTC14; PackageDescription: Molded TSSOP, JEDEC, 5 x 4.4 x 0.9mm Body, 14 Lead, 0.65mm Pitch; RoHS: Y; PinCount: 14; Code_JEDEC: MO-153-AB-1; ComponentLink1Description: Manufacturer URL; ComponentLink1URL: http://www.national.com/; ComponentLink2Description: LMH1981 Datasheet; ComponentLink2URL: http://www.national.com/ds/LM/LMH1981.pdf; ComponentLink3Description: LMH1981 Web Page; ComponentLink3URL: http://www.national.com/pf/LM/LMH1981.html; ComponentLink4Description: MTC14 Package Page; ComponentLink4URL: http://www.national.com/packaging/folders/mtc14.html
footprint MTC14_N (TSOP, 14-Leads, Body 5x4.4mm, Pitch 0.65mm, IPC Medium Density)
footprint MTC14_L (TSOP, 14-Leads, Body 5x4.4mm, Pitch 0.65mm, IPC High Density)
footprint MTC14_M (TSOP, 14-Leads, Body 5x4.4mm, Pitch 0.65mm, IPC Low Density)
pins: 1 REXT, 2 GND (power), 3 VCC 1 (power), 4 VIN (in), 5 GND (power), 6 VCC 2 (power), 7 HS OUT (out), 8 VS OUT (out), 9 VF OUT (out), 10 GND (power), 11 VCC 3 (power), 12 CS OUT (out), 13 BP OUT (out), 14 OE OUT (out)

## LMH1981MT/NOPB
designator U?
Multi-Format Video Sync Separator, 14-pin TSSOP, Pb-Free; PartNumber: LMH1981MT/NOPB; Manufacturer: National Semiconductor; PackageTopMarking: NSUZXYTT*LMH19*81MT; PowerWise: N; CompType: Amplifiers; High-Reliability: Y; DatasheetVersion: Jul-2007; PackageVersion: revD, Jun-2003; PackageReference: MTC14; PackageDescription: Molded TSSOP, JEDEC, 5 x 4.4 x 0.9mm Body, 14 Lead, 0.65mm Pitch; RoHS: Y; PinCount: 14; Code_JEDEC: MO-153-AB-1; ComponentLink1Description: Manufacturer URL; ComponentLink1URL: http://www.national.com/; ComponentLink2Description: LMH1981 Datasheet; ComponentLink2URL: http://www.national.com/ds/LM/LMH1981.pdf; ComponentLink3Description: LMH1981 Web Page; ComponentLink3URL: http://www.national.com/pf/LM/LMH1981.html; ComponentLink4Description: MTC14 Package Page; ComponentLink4URL: http://www.national.com/packaging/folders/mtc14.html
footprint MTC14_N (TSOP, 14-Leads, Body 5x4.4mm, Pitch 0.65mm, IPC Medium Density)
footprint MTC14_L (TSOP, 14-Leads, Body 5x4.4mm, Pitch 0.65mm, IPC High Density)
footprint MTC14_M (TSOP, 14-Leads, Body 5x4.4mm, Pitch 0.65mm, IPC Low Density)
pins: 1 REXT, 2 GND (power), 3 VCC 1 (power), 4 VIN (in), 5 GND (power), 6 VCC 2 (power), 7 HS OUT (out), 8 VS OUT (out), 9 VF OUT (out), 10 GND (power), 11 VCC 3 (power), 12 CS OUT (out), 13 BP OUT (out), 14 OE OUT (out)

## LMH1981MTX/NOPB
designator U?
Multi-Format Video Sync Separator, 14-pin TSSOP, Pb-Free; PartNumber: LMH1981MTX/NOPB; Manufacturer: National Semiconductor; PackageTopMarking: NSUZXYTT*LMH19*81MT; PowerWise: N; CompType: Amplifiers; High-Reliability: Y; DatasheetVersion: Jul-2007; PackageVersion: revD, Jun-2003; PackageReference: MTC14; PackageDescription: Molded TSSOP, JEDEC, 5 x 4.4 x 0.9mm Body, 14 Lead, 0.65mm Pitch; RoHS: Y; PinCount: 14; Code_JEDEC: MO-153-AB-1; ComponentLink1Description: Manufacturer URL; ComponentLink1URL: http://www.national.com/; ComponentLink2Description: LMH1981 Datasheet; ComponentLink2URL: http://www.national.com/ds/LM/LMH1981.pdf; ComponentLink3Description: LMH1981 Web Page; ComponentLink3URL: http://www.national.com/pf/LM/LMH1981.html; ComponentLink4Description: MTC14 Package Page; ComponentLink4URL: http://www.national.com/packaging/folders/mtc14.html
footprint MTC14_N (TSOP, 14-Leads, Body 5x4.4mm, Pitch 0.65mm, IPC Medium Density)
footprint MTC14_L (TSOP, 14-Leads, Body 5x4.4mm, Pitch 0.65mm, IPC High Density)
footprint MTC14_M (TSOP, 14-Leads, Body 5x4.4mm, Pitch 0.65mm, IPC Low Density)
pins: 1 REXT, 2 GND (power), 3 VCC 1 (power), 4 VIN (in), 5 GND (power), 6 VCC 2 (power), 7 HS OUT (out), 8 VS OUT (out), 9 VF OUT (out), 10 GND (power), 11 VCC 3 (power), 12 CS OUT (out), 13 BP OUT (out), 14 OE OUT (out)

## LMH2180SD
designator U?
75 MHz Dual Clock Buffer, 8-pin LLP; PartNumber: LMH2180SD; Manufacturer: National Semiconductor; PackageTopMarking: ZXYTT*2180S; PowerWise: N; CompType: Amplifiers; High-Reliability: Y; DatasheetVersion: Aug-2008; PackageVersion: revA, Aug-2003; PackageReference: SDA08A; PackageDescription: LLP, Plastic, Dual, 3 x 3 x 0.8mm Body, 8 Lead, 0.5mm Pitch, No Pullback; RoHS: Y; PinCount: 8; ComponentLink1Description: Manufacturer URL; ComponentLink1URL: http://www.national.com/; ComponentLink2Description: LMH2180 Datasheet; ComponentLink2URL: http://www.national.com/ds/LM/LMH2180.pdf; ComponentLink3Description: LMH2180 Web Page; ComponentLink3URL: http://www.national.com/pf/LM/LMH2180.html; ComponentLink4Description: SDA08A Package Page; ComponentLink4URL: http://www.national.com/packaging/folders/sda08a.html
footprint SDA08A (SON, 8-Leads, Body 3x3mm, Pitch 0.5mm, NSC Recommended)
pins on every part: 1 VDD (power), 5 VSS (power)
part A pins: 2 IN1 (in), 7 OUT1 (out), 8 EN1 (in)
part B pins: 3 IN2 (in), 4 EN2 (in), 6 OUT2 (out)
part C pins: 9 DAP

## LMH2180SD/NOPB
designator U?
75 MHz Dual Clock Buffer, 8-pin LLP, Pb-Free; PartNumber: LMH2180SD/NOPB; Manufacturer: National Semiconductor; PackageTopMarking: ZXYTT*2180S; PowerWise: N; CompType: Amplifiers; High-Reliability: Y; DatasheetVersion: Aug-2008; PackageVersion: revA, Aug-2003; PackageReference: SDA08A; PackageDescription: LLP, Plastic, Dual, 3 x 3 x 0.8mm Body, 8 Lead, 0.5mm Pitch, No Pullback; RoHS: Y; PinCount: 8; ComponentLink1Description: Manufacturer URL; ComponentLink1URL: http://www.national.com/; ComponentLink2Description: LMH2180 Datasheet; ComponentLink2URL: http://www.national.com/ds/LM/LMH2180.pdf; ComponentLink3Description: LMH2180 Web Page; ComponentLink3URL: http://www.national.com/pf/LM/LMH2180.html; ComponentLink4Description: SDA08A Package Page; ComponentLink4URL: http://www.national.com/packaging/folders/sda08a.html
footprint SDA08A (SON, 8-Leads, Body 3x3mm, Pitch 0.5mm, NSC Recommended)
pins on every part: 1 VDD (power), 5 VSS (power)
part A pins: 2 IN1 (in), 7 OUT1 (out), 8 EN1 (in)
part B pins: 3 IN2 (in), 4 EN2 (in), 6 OUT2 (out)
part C pins: 9 DAP

## LMH2180SDE/NOPB
designator U?
75 MHz Dual Clock Buffer, 8-pin LLP, Pb-Free; PartNumber: LMH2180SDE/NOPB; Manufacturer: National Semiconductor; PackageTopMarking: ZXYTT*2180S; PowerWise: N; CompType: Amplifiers; High-Reliability: Y; DatasheetVersion: Aug-2008; PackageVersion: revA, Aug-2003; PackageReference: SDA08A; PackageDescription: LLP, Plastic, Dual, 3 x 3 x 0.8mm Body, 8 Lead, 0.5mm Pitch, No Pullback; RoHS: Y; PinCount: 8; ComponentLink1Description: Manufacturer URL; ComponentLink1URL: http://www.national.com/; ComponentLink2Description: LMH2180 Datasheet; ComponentLink2URL: http://www.national.com/ds/LM/LMH2180.pdf; ComponentLink3Description: LMH2180 Web Page; ComponentLink3URL: http://www.national.com/pf/LM/LMH2180.html; ComponentLink4Description: SDA08A Package Page; ComponentLink4URL: http://www.national.com/packaging/folders/sda08a.html
footprint SDA08A (SON, 8-Leads, Body 3x3mm, Pitch 0.5mm, NSC Recommended)
pins on every part: 1 VDD (power), 5 VSS (power)
part A pins: 2 IN1 (in), 7 OUT1 (out), 8 EN1 (in)
part B pins: 3 IN2 (in), 4 EN2 (in), 6 OUT2 (out)
part C pins: 9 DAP

## LMH2180SDX/NOPB
designator U?
75 MHz Dual Clock Buffer, 8-pin LLP, Pb-Free; PartNumber: LMH2180SDX/NOPB; Manufacturer: National Semiconductor; PackageTopMarking: ZXYTT*2180S; PowerWise: N; CompType: Amplifiers; High-Reliability: Y; DatasheetVersion: Aug-2008; PackageVersion: revA, Aug-2003; PackageReference: SDA08A; PackageDescription: LLP, Plastic, Dual, 3 x 3 x 0.8mm Body, 8 Lead, 0.5mm Pitch, No Pullback; RoHS: Y; PinCount: 8; ComponentLink1Description: Manufacturer URL; ComponentLink1URL: http://www.national.com/; ComponentLink2Description: LMH2180 Datasheet; ComponentLink2URL: http://www.national.com/ds/LM/LMH2180.pdf; ComponentLink3Description: LMH2180 Web Page; ComponentLink3URL: http://www.national.com/pf/LM/LMH2180.html; ComponentLink4Description: SDA08A Package Page; ComponentLink4URL: http://www.national.com/packaging/folders/sda08a.html
footprint SDA08A (SON, 8-Leads, Body 3x3mm, Pitch 0.5mm, NSC Recommended)
pins on every part: 1 VDD (power), 5 VSS (power)
part A pins: 2 IN1 (in), 7 OUT1 (out), 8 EN1 (in)
part B pins: 3 IN2 (in), 4 EN2 (in), 6 OUT2 (out)
part C pins: 9 DAP

## LMH2180TM
designator U?
75 MHz Dual Clock Buffer, 8-pin Micro SMD; PartNumber: LMH2180TM; Manufacturer: National Semiconductor; PackageTopMarking: XVA*I A; PowerWise: N; CompType: Amplifiers; High-Reliability: Y; DatasheetVersion: Aug-2008; PackageVersion: revA; PackageReference: TMD08CCA; PackageDescription: Thin Micro SMD, 8 Bump, 0.4mm Pitch; RoHS: Y; PinCount: 8; ComponentLink1Description: Manufacturer URL; ComponentLink1URL: http://www.national.com/; ComponentLink2Description: LMH2180 Datasheet; ComponentLink2URL: http://www.national.com/ds/LM/LMH2180.pdf; ComponentLink3Description: LMH2180 Web Page; ComponentLink3URL: http://www.national.com/pf/LM/LMH2180.html
footprint TMD08CCA (Micro SMD, 8-Leads, Body 1.22x1.22mm, Pitch 0.4mm, NSC Recommended)
pins on every part: A3 VDD (power), C1 VSS (power)
part A pins: A2 IN1 (in), B3 EN1 (in), C3 OUT1 (out)
part B pins: A1 IN2 (in), B1 EN2 (in), C2 OUT2 (out)